# Altium schematic symbol library SiLabs.SchLib: 3 symbols
Pins are listed as number, name and electrical type; pins without a type are passive.

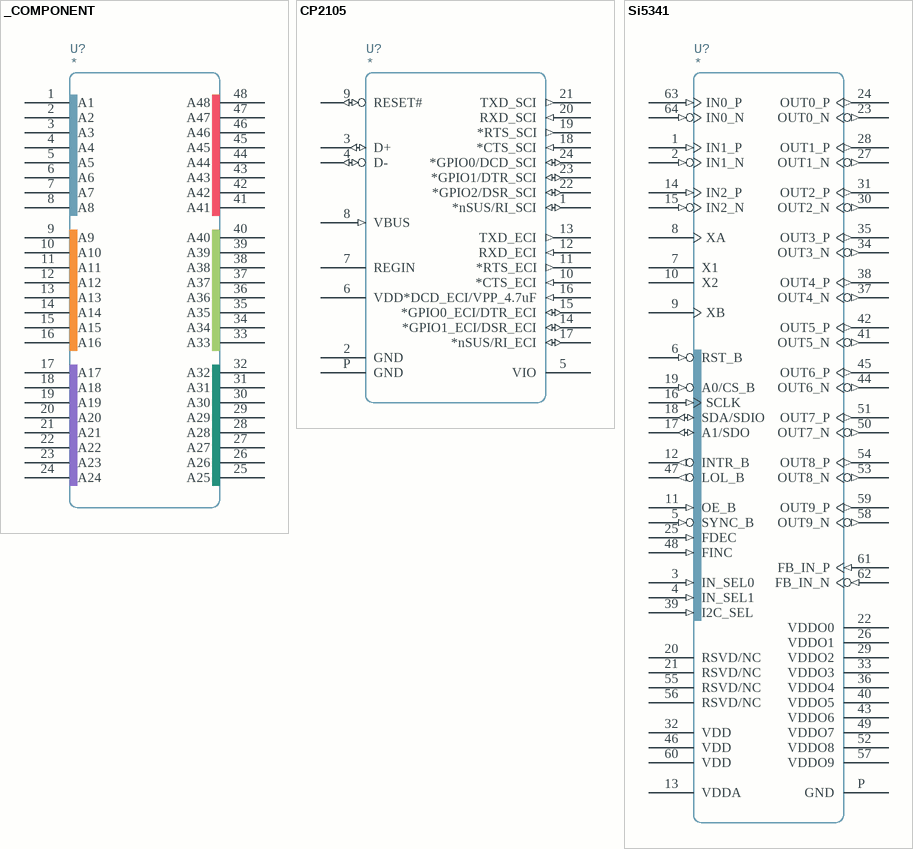
[diagram p0: symbols _COMPONENT to Si5341]

## _COMPONENT
designator U?
pins: 1 A1, 2 A2, 3 A3, 4 A4, 5 A5, 6 A6, 7 A7, 8 A8, 9 A9, 10 A10, 11 A11, 12 A12, 13 A13, 14 A14, 15 A15, 16 A16, 17 A17, 18 A18, 19 A19, 20 A20, 21 A21, 22 A22, 23 A23, 24 A24, 25 A25, 26 A26, 27 A27, 28 A28, 29 A29, 30 A30, 31 A31, 32 A32, 33 A33, 34 A34, 35 A35, 36 A36, 37 A37, 38 A38, 39 A39, 40 A40, 41 A41, 42 A42, 43 A43, 44 A44, 45 A45, 46 A46, 47 A47, 48 A48

## CP2105
designator U?
pins: 1 *nSUS/RI_SCI (io), 2 GND, 3 D+ (io), 4 D- (io), 5 VIO, 6 VDD, 7 REGIN, 8 VBUS (in), 9 RESET# (io), 10 *CTS_ECI (in), 11 *RTS_ECI (out), 12 RXD_ECI (in), 13 TXD_ECI (out), 14 *GPIO1_ECI/DSR_ECI (io), 15 *GPIO0_ECI/DTR_ECI (io), 16 *DCD_ECI/VPP_4.7uF (in), 17 *nSUS/RI_ECI (io), 18 *CTS_SCI (in), 19 *RTS_SCI (out), 20 RXD_SCI (in), 21 TXD_SCI (out), 22 *GPIO2/DSR_SCI (io), 23 *GPIO1/DTR_SCI (io), 24 *GPIO0/DCD_SCI (io), P GND

## Si5341
designator U?
pins: 1 IN1_P (in), 2 IN1_N (in), 3 IN_SEL0 (in), 4 IN_SEL1 (in), 5 SYNC_B (in), 6 RST_B (in), 7 X1, 8 XA, 9 XB, 10 X2, 11 OE_B (in), 12 INTR_B (out), 13 VDDA, 14 IN2_P (in), 15 IN2_N (in), 16 SCLK (in), 17 A1/SDO (io), 18 SDA/SDIO (io), 19 A0/CS_B (in), 20 RSVD/NC, 21 RSVD/NC, 22 VDDO0, 23 OUT0_N (out), 24 OUT0_P (out), 25 FDEC (in), 26 VDDO1, 27 OUT1_N (out), 28 OUT1_P (out), 29 VDDO2, 30 OUT2_N (out), 31 OUT2_P (out), 32 VDD, 33 VDDO3, 34 OUT3_N (out), 35 OUT3_P (out), 36 VDDO4, 37 OUT4_N (out), 38 OUT4_P (out), 39 I2C_SEL (in), 40 VDDO5, 41 OUT5_N (out), 42 OUT5_P (out), 43 VDDO6, 44 OUT6_N (out), 45 OUT6_P (out), 46 VDD, 47 LOL_B (out), 48 FINC (in), 49 VDDO7, 50 OUT7_N (out), 51 OUT7_P (out), 52 VDDO8, 53 OUT8_N (out), 54 OUT8_P (out), 55 RSVD/NC, 56 RSVD/NC, 57 VDDO9, 58 OUT9_N (out), 59 OUT9_P (out), 60 VDD, 61 FB_IN_P (in), 62 FB_IN_N (in), 63 IN0_P (in), 64 IN0_N (in), P GND